# EAGLE library part MAX338 (library tdcs)
MAX338 is a 8 to 1 analog de/mux with a wide rang of single/dual supply options Switched signals must be within Vdd>Vsignal>Vss. <400Ohm on-resistance, <20pA leakage when off. Datasheet <http://datasheets.maximintegrated.com/en/ds/MAX338-MAX339.pdf>
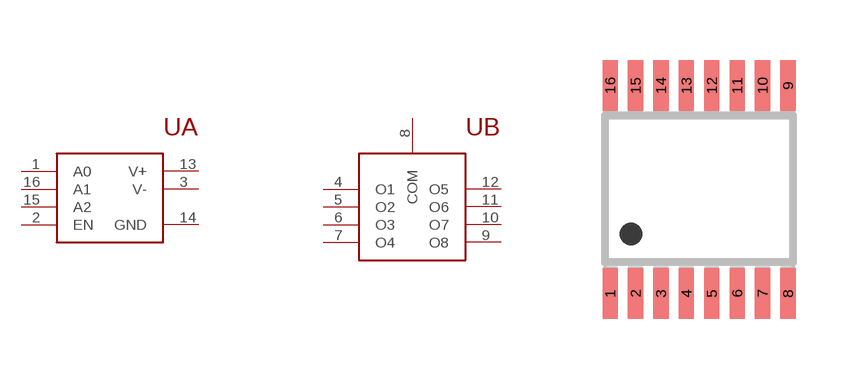
[diagram p2: symbol with the pads of QSOP16; footprint QSOP16]

Designator prefix U; gates B=MAX338_A A=MAX338_D

## MAX338  [QSOP16]
1  A:A0  pas
2  A:EN  pas
3  A:V-  pas
4  B:O1  pas
5  B:O2  pas
6  B:O3  pas
7  B:O4  pas
8  B:COM  pas
9  B:O8  pas
10  B:O7  pas
11  B:O6  pas
12  B:O5  pas
13  A:V+  in
14  A:GND  in
15  A:A2  pas
16  A:A1  pas

## Footprint QSOP16 (pad centres in mm)
16-Lead Shrink Small Outline Package QSOP (RQ-16) Source: ADG658_659.pdf
smd 0.381 x 1.27: 1 -2.223,-2.6; 2 -1.587,-2.6; 3 -0.953,-2.6; 4 -0.318,-2.6; 5 0.318,-2.6; 6 0.953,-2.6; 7 1.587,-2.6; 8 2.223,-2.6; 9 2.223,2.6; 10 1.587,2.6; 11 0.953,2.6; 12 0.318,2.6; 13 -0.318,2.6; 14 -0.953,2.6; 15 -1.587,2.6; 16 -2.223,2.6